# Altium footprint library 8.非标封装、Mark点、定位孔.PcbLib: 9 footprints
Each footprint in its own frame and in the unit in brackets; x right, y up, seen from the top. Pads: shape width x height; smd on the part's side, far side on the other; paste and mask are expansions set on the pad; w line width, h text height; cw(c..) or ccw(c..) is an arc to the next point about the centre after c.
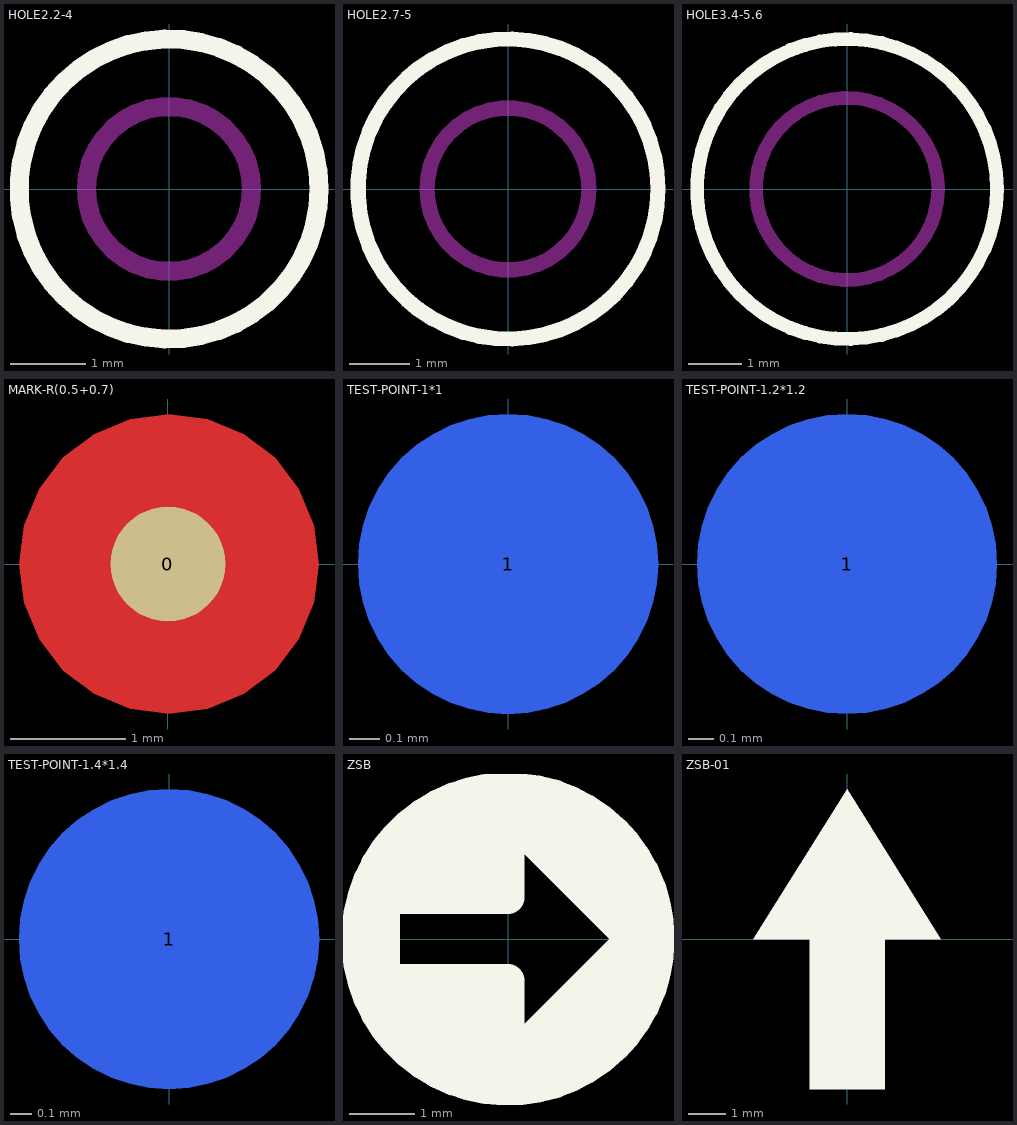
[diagram p0: the footprints below, top view; thin cyan lines are the x and y axes]

## HOLE2.2-4 [mm]
Top Overlay:
  circle w0.254: c0,0 r2
Keep-Out Layer:
  circle w0.254: c0,0 r1.1

## HOLE2.7-5 [mm]
Top Overlay:
  circle w0.254: c0,0 r2.5
Keep-Out Layer:
  circle w0.254: c0,0 r1.35

## HOLE3.4-5.6 [mm]
Top Overlay:
  circle w0.254: c0,0 r2.8
Keep-Out Layer:
  circle w0.254: c0,0 r1.7

## MARK-R(0.5+0.7) [mm]
pads (1):
  round 1 smd mask+0.7: 0(0,0)
Top Layer:
  pour cut-out: 0.009,-1.304 -0.329,-1.26 -0.643,-1.13 -0.913,-0.922 -1.121,-0.652 -1.251,-0.338 -1.295,0 -1.251,0.338 -1.121,0.652 -0.913,0.922 -0.643,1.13 -0.329,1.26 0.009,1.304 0.346,1.26 0.661,1.13 0.931,0.922 1.138,0.652 1.269,0.338 1.313,0 1.269,-0.338 1.138,-0.652 0.931,-0.922 0.661,-1.13 0.346,-1.26

## TEST-POINT-1*1 [mm]
pads (1):
  round 1 smd far side: 1(0,0)

## TEST-POINT-1.2*1.2 [mm]
pads (1):
  round 1.2 smd far side: 1(0,0)

## TEST-POINT-1.4*1.4 [mm]
pads (1):
  round 1.4 smd far side: 1(0,0)

## ZSB [mm]
Top Overlay:
  circle w0.508: c0,0 r2.29
  lines w0.508: -1.27,-0.635 0,-1.905 ; -1.27,0.635 0,1.905 ; -0.635,-0.635 0,-1.27 ; -0.635,0.635 0,1.27 ; -0.635,1.905 -1.905,0.635 ; -0.318,-2.222 -1.905,-0.635 ; -0.318,2.222 -1.905,0.635 ; 0.318,-2.222 1.905,-0.635 0.635,-1.905 2.222,-0.318 ; 0.318,2.222 1.905,0.635 0.635,1.905 ; 1.27,1.27 2.222,0.318 ; -1.905,-0.635 0,-0.635 0,-1.905 ; -1.905,-0.635 -1.905,0.635 ; -1.905,0.635 0,0.635 0,1.905 ; 0,-1.905 1.905,0 0,1.905

## ZSB-01 [mm]
Top Overlay:
  region: 0,4.064 -2.54,0 2.54,0
  region: -1.016,0 -1.016,-4.064 1.016,-4.064 1.016,0